# EAGLE library part RPI-CM4 (library SBC)
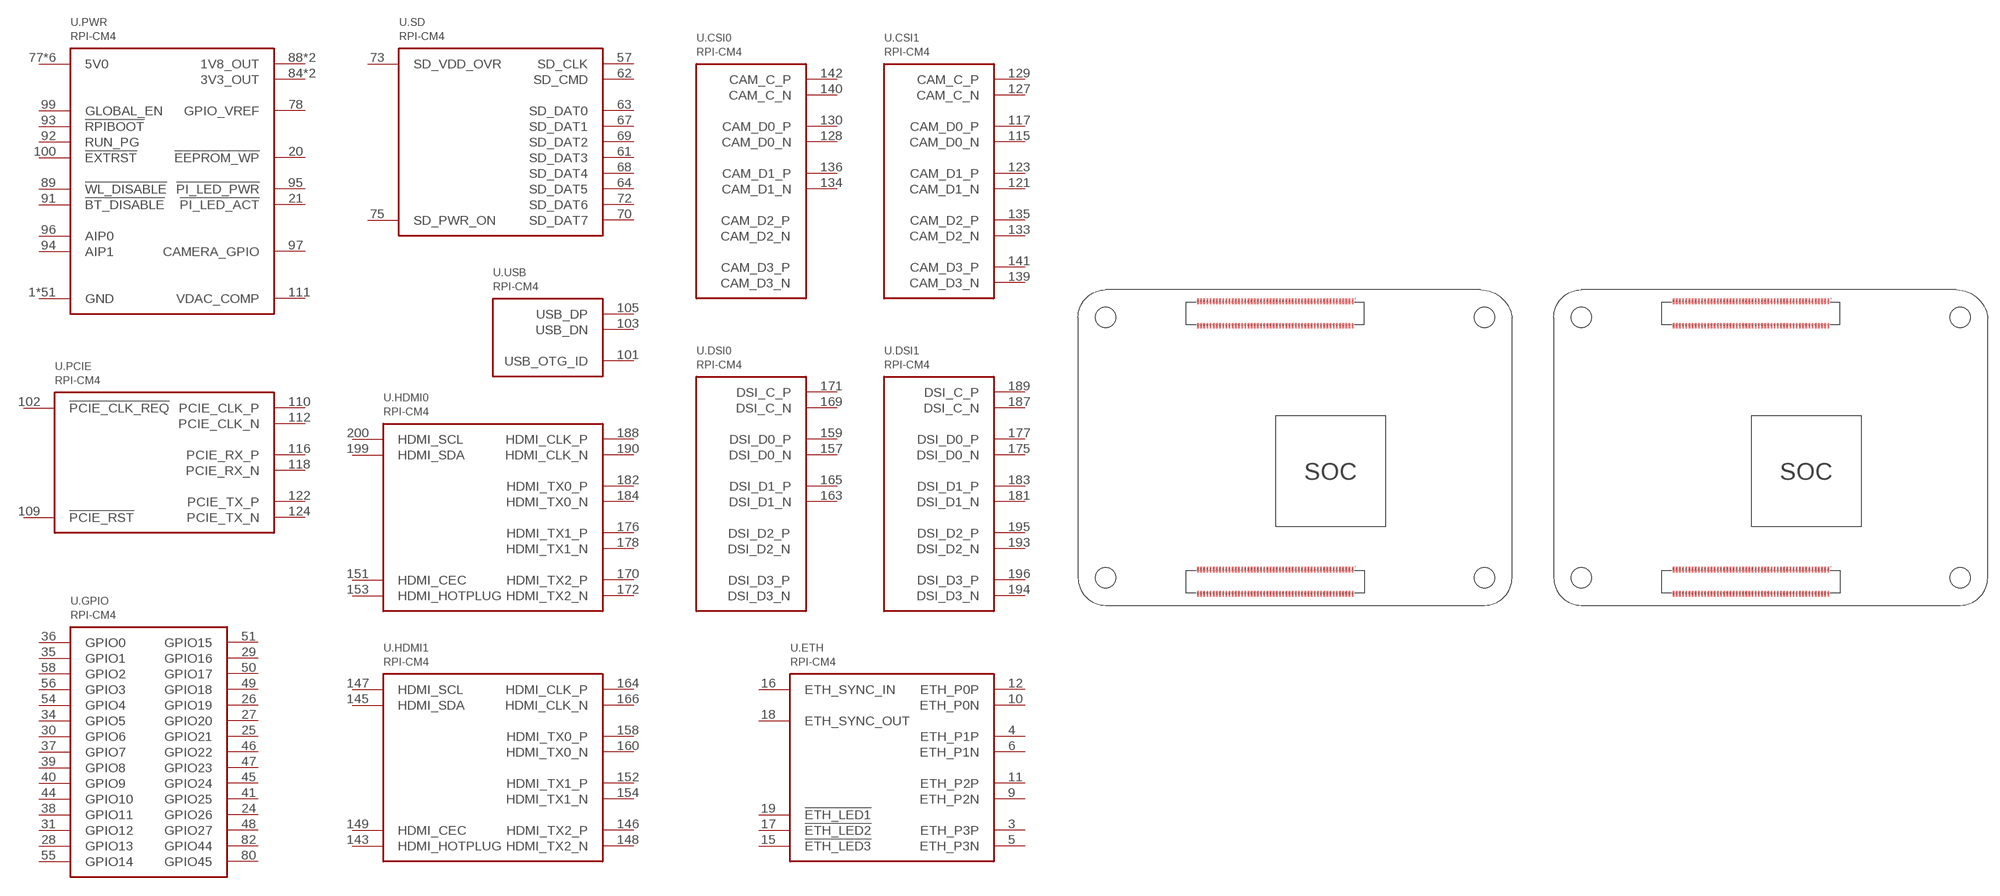
[diagram p3: symbol with the pads of RPI-CM4; footprints RPI-CM4, RPI-CM4-WIFI]

Designator prefix U; gates .PWR=RPI-CM4-PWR .SD=RPI-CM4-SD .USB=RPI-CM4-USB .PCIE=RPI-CM4-PCIE .HDMI0=RPI-CM4-HDMI .HDMI1=RPI-CM4-HDMI .GPIO=RPI-CM4-GPIO .ETH=RPI-CM4-ETH .DSI1=RPI-CM4-DSI-4 .CSI1=RPI-CM4-CSI-4 .CSI0=RPI-CM4-CSI-2 .DSI0=RPI-CM4-DSI-2

## RPI-CM4  [RPI-CM4]
1  .PWR:GND
2  .PWR:GND
3  .ETH:ETH_P3P
4  .ETH:ETH_P1P
5  .ETH:ETH_P3N
6  .ETH:ETH_P1N
7  .PWR:GND
8  .PWR:GND
9  .ETH:ETH_P2N
10  .ETH:ETH_P0N
11  .ETH:ETH_P2P
12  .ETH:ETH_P0P
13  .PWR:GND
14  .PWR:GND
15  .ETH:!ETH_LED3
16  .ETH:ETH_SYNC_IN
17  .ETH:!ETH_LED2
18  .ETH:ETH_SYNC_OUT
19  .ETH:!ETH_LED1
20  .PWR:!EEPROM_WP
21  .PWR:!PI_LED_ACT
22  .PWR:GND
23  .PWR:GND
24  .GPIO:GPIO26
25  .GPIO:GPIO21
26  .GPIO:GPIO19
27  .GPIO:GPIO20
28  .GPIO:GPIO13
29  .GPIO:GPIO16
30  .GPIO:GPIO6
31  .GPIO:GPIO12
32  .PWR:GND
33  .PWR:GND
34  .GPIO:GPIO5
35  .GPIO:GPIO1
36  .GPIO:GPIO0
37  .GPIO:GPIO7
38  .GPIO:GPIO11
39  .GPIO:GPIO8
40  .GPIO:GPIO9
41  .GPIO:GPIO25
42  .PWR:GND
43  .PWR:GND
44  .GPIO:GPIO10
45  .GPIO:GPIO24
46  .GPIO:GPIO22
47  .GPIO:GPIO23
48  .GPIO:GPIO27
49  .GPIO:GPIO18
50  .GPIO:GPIO17
51  .GPIO:GPIO15
52  .PWR:GND
53  .PWR:GND
54  .GPIO:GPIO4
55  .GPIO:GPIO14
56  .GPIO:GPIO3
57  .SD:SD_CLK
58  .GPIO:GPIO2
59  .PWR:GND
60  .PWR:GND
61  .SD:SD_DAT3
62  .SD:SD_CMD
63  .SD:SD_DAT0
64  .SD:SD_DAT5
65  .PWR:GND
66  .PWR:GND
67  .SD:SD_DAT1
68  .SD:SD_DAT4
69  .SD:SD_DAT2
70  .SD:SD_DAT7
71  .PWR:GND
72  .SD:SD_DAT6
73  .SD:SD_VDD_OVR
74  .PWR:GND
75  .SD:SD_PWR_ON
77  .PWR:5V0
78  .PWR:GPIO_VREF
79  .PWR:5V0
80  .GPIO:GPIO45
81  .PWR:5V0
82  .GPIO:GPIO44
83  .PWR:5V0
84  .PWR:3V3_OUT
85  .PWR:5V0
86  .PWR:3V3_OUT
87  .PWR:5V0
88  .PWR:1V8_OUT
89  .PWR:!WL_DISABLE
90  .PWR:1V8_OUT
91  .PWR:!BT_DISABLE
92  .PWR:RUN_PG
93  .PWR:!RPIBOOT
94  .PWR:AIP1
95  .PWR:!PI_LED_PWR
96  .PWR:AIP0
97  .PWR:CAMERA_GPIO
98  .PWR:GND
99  .PWR:GLOBAL_EN
100  .PWR:!EXTRST
101  .USB:USB_OTG_ID
102  .PCIE:!PCIE_CLK_REQ
103  .USB:USB_DN
105  .USB:USB_DP
107  .PWR:GND
108  .PWR:GND
109  .PCIE:!PCIE_RST
110  .PCIE:PCIE_CLK_P
111  .PWR:VDAC_COMP
112  .PCIE:PCIE_CLK_N
113  .PWR:GND
114  .PWR:GND
115  .CSI1:CAM_D0_N
116  .PCIE:PCIE_RX_P
117  .CSI1:CAM_D0_P
118  .PCIE:PCIE_RX_N
119  .PWR:GND
120  .PWR:GND
121  .CSI1:CAM_D1_N
122  .PCIE:PCIE_TX_P
123  .CSI1:CAM_D1_P
124  .PCIE:PCIE_TX_N
125  .PWR:GND
126  .PWR:GND
127  .CSI1:CAM_C_N
128  .CSI0:CAM_D0_N
129  .CSI1:CAM_C_P
130  .CSI0:CAM_D0_P
131  .PWR:GND
132  .PWR:GND
133  .CSI1:CAM_D2_N
134  .CSI0:CAM_D1_N
135  .CSI1:CAM_D2_P
136  .CSI0:CAM_D1_P
137  .PWR:GND
138  .PWR:GND
139  .CSI1:CAM_D3_N
140  .CSI0:CAM_C_N
141  .CSI1:CAM_D3_P
142  .CSI0:CAM_C_P
143  .HDMI1:HDMI_HOTPLUG
144  .PWR:GND
145  .HDMI1:HDMI_SDA
146  .HDMI1:HDMI_TX2_P
147  .HDMI1:HDMI_SCL
148  .HDMI1:HDMI_TX2_N
149  .HDMI1:HDMI_CEC
150  .PWR:GND
151  .HDMI0:HDMI_CEC
152  .HDMI1:HDMI_TX1_P
153  .HDMI0:HDMI_HOTPLUG
154  .HDMI1:HDMI_TX1_N
155  .PWR:GND
156  .PWR:GND
157  .DSI0:DSI_D0_N
158  .HDMI1:HDMI_TX0_P
159  .DSI0:DSI_D0_P
160  .HDMI1:HDMI_TX0_N
161  .PWR:GND
162  .PWR:GND
163  .DSI0:DSI_D1_N
164  .HDMI1:HDMI_CLK_P
165  .DSI0:DSI_D1_P
166  .HDMI1:HDMI_CLK_N
167  .PWR:GND
168  .PWR:GND
169  .DSI0:DSI_C_N
170  .HDMI0:HDMI_TX2_P
171  .DSI0:DSI_C_P
172  .HDMI0:HDMI_TX2_N
173  .PWR:GND
174  .PWR:GND
175  .DSI1:DSI_D0_N
176  .HDMI0:HDMI_TX1_P
177  .DSI1:DSI_D0_P
178  .HDMI0:HDMI_TX1_N
179  .PWR:GND
180  .PWR:GND
181  .DSI1:DSI_D1_N
182  .HDMI0:HDMI_TX0_P
183  .DSI1:DSI_D1_P
184  .HDMI0:HDMI_TX0_N
185  .PWR:GND
186  .PWR:GND
187  .DSI1:DSI_C_N
188  .HDMI0:HDMI_CLK_P
189  .DSI1:DSI_C_P
190  .HDMI0:HDMI_CLK_N
191  .PWR:GND
192  .PWR:GND
193  .DSI1:DSI_D2_N
194  .DSI1:DSI_D3_N
195  .DSI1:DSI_D2_P
196  .DSI1:DSI_D3_P
197  .PWR:GND
198  .PWR:GND
199  .HDMI0:HDMI_SDA
200  .HDMI0:HDMI_SCL

## RPI-CM4-WIFI  [RPI-CM4-WIFI]
Pads as for RPI-CM4

## Footprint RPI-CM4 (pad centres in mm)
smd 0.2 x 0.7: 1 34.8,38.54; 2 34.8,35.46; 3 34.4,38.54; 4 34.4,35.46; 5 34,38.54; 6 34,35.46; 7 33.6,38.54; 8 33.6,35.46; 9 33.2,38.54; 10 33.2,35.46; 11 32.8,38.54; 12 32.8,35.46; 13 32.4,38.54; 14 32.4,35.46; 15 32,38.54; 16 32,35.46; 17 31.6,38.54; 18 31.6,35.46; 19 31.2,38.54; 20 31.2,35.46; 21 30.8,38.54; 22 30.8,35.46; 23 30.4,38.54; 24 30.4,35.46; 25 30,38.54; 26 30,35.46; 27 29.6,38.54; 28 29.6,35.46; 29 29.2,38.54; 30 29.2,35.46; 31 28.8,38.54; 32 28.8,35.46; 33 28.4,38.54; 34 28.4,35.46; 35 28,38.54; 36 28,35.46; 37 27.6,38.54; 38 27.6,35.46; 39 27.2,38.54; 40 27.2,35.46; 41 26.8,38.54; 42 26.8,35.46; 43 26.4,38.54; 44 26.4,35.46; 45 26,38.54; 46 26,35.46; 47 25.6,38.54; 48 25.6,35.46; 49 25.2,38.54; 50 25.2,35.46; 51 24.8,38.54; 52 24.8,35.46; 53 24.4,38.54; 54 24.4,35.46; 55 24,38.54; 56 24,35.46; 57 23.6,38.54; 58 23.6,35.46; 59 23.2,38.54; 60 23.2,35.46; 61 22.8,38.54; 62 22.8,35.46; 63 22.4,38.54; 64 22.4,35.46; 65 22,38.54; 66 22,35.46; 67 21.6,38.54; 68 21.6,35.46; 69 21.2,38.54; 70 21.2,35.46; 71 20.8,38.54; 72 20.8,35.46; 73 20.4,38.54; 74 20.4,35.46; 75 20,38.54; 76 20,35.46; 77 19.6,38.54; 78 19.6,35.46; 79 19.2,38.54; 80 19.2,35.46; 81 18.8,38.54; 82 18.8,35.46; 83 18.4,38.54; 84 18.4,35.46; 85 18,38.54; 86 18,35.46; 87 17.6,38.54; 88 17.6,35.46; 89 17.2,38.54; 90 17.2,35.46; 91 16.8,38.54; 92 16.8,35.46; 93 16.4,38.54; 94 16.4,35.46; 95 16,38.54; 96 16,35.46; 97 15.6,38.54; 98 15.6,35.46; 99 15.2,38.54; 100 15.2,35.46; 101 34.8,4.54; 102 34.8,1.46; 103 34.4,4.54; 104 34.4,1.46; 105 34,4.54; 106 34,1.46; 107 33.6,4.54; 108 33.6,1.46; 109 33.2,4.54; 110 33.2,1.46; 111 32.8,4.54; 112 32.8,1.46; 113 32.4,4.54; 114 32.4,1.46; 115 32,4.54; 116 32,1.46; 117 31.6,4.54; 118 31.6,1.46; 119 31.2,4.54; 120 31.2,1.46; 121 30.8,4.54; 122 30.8,1.46; 123 30.4,4.54; 124 30.4,1.46; 125 30,4.54; 126 30,1.46; 127 29.6,4.54; 128 29.6,1.46; 129 29.2,4.54; 130 29.2,1.46; 131 28.8,4.54; 132 28.8,1.46; 133 28.4,4.54; 134 28.4,1.46; 135 28,4.54; 136 28,1.46; 137 27.6,4.54; 138 27.6,1.46; 139 27.2,4.54; 140 27.2,1.46; 141 26.8,4.54; 142 26.8,1.46; 143 26.4,4.54; 144 26.4,1.46; 145 26,4.54; 146 26,1.46; 147 25.6,4.54; 148 25.6,1.46; 149 25.2,4.54; 150 25.2,1.46; 151 24.8,4.54; 152 24.8,1.46; 153 24.4,4.54; 154 24.4,1.46; 155 24,4.54; 156 24,1.46; 157 23.6,4.54; 158 23.6,1.46; 159 23.2,4.54; 160 23.2,1.46; 161 22.8,4.54; 162 22.8,1.46; 163 22.4,4.54; 164 22.4,1.46; 165 22,4.54; 166 22,1.46; 167 21.6,4.54; 168 21.6,1.46; 169 21.2,4.54; 170 21.2,1.46; 171 20.8,4.54; 172 20.8,1.46; 173 20.4,4.54; 174 20.4,1.46; 175 20,4.54; 176 20,1.46; 177 19.6,4.54; 178 19.6,1.46; 179 19.2,4.54; 180 19.2,1.46; 181 18.8,4.54; 182 18.8,1.46; 183 18.4,4.54; 184 18.4,1.46; 185 18,4.54; 186 18,1.46; 187 17.6,4.54; 188 17.6,1.46; 189 17.2,4.54; 190 17.2,1.46; 191 16.8,4.54; 192 16.8,1.46; 193 16.4,4.54; 194 16.4,1.46; 195 16,4.54; 196 16,1.46; 197 15.6,4.54; 198 15.6,1.46; 199 15.2,4.54; 200 15.2,1.46
hole 2.55 at 3.5,3.5
hole 2.55 at 3.5,36.5
hole 2.55 at 51.5,36.5
hole 2.55 at 51.5,3.5

## Footprint RPI-CM4-WIFI (pad centres in mm)
smd 0.2 x 0.7: 1 34.8,38.54; 2 34.8,35.46; 3 34.4,38.54; 4 34.4,35.46; 5 34,38.54; 6 34,35.46; 7 33.6,38.54; 8 33.6,35.46; 9 33.2,38.54; 10 33.2,35.46; 11 32.8,38.54; 12 32.8,35.46; 13 32.4,38.54; 14 32.4,35.46; 15 32,38.54; 16 32,35.46; 17 31.6,38.54; 18 31.6,35.46; 19 31.2,38.54; 20 31.2,35.46; 21 30.8,38.54; 22 30.8,35.46; 23 30.4,38.54; 24 30.4,35.46; 25 30,38.54; 26 30,35.46; 27 29.6,38.54; 28 29.6,35.46; 29 29.2,38.54; 30 29.2,35.46; 31 28.8,38.54; 32 28.8,35.46; 33 28.4,38.54; 34 28.4,35.46; 35 28,38.54; 36 28,35.46; 37 27.6,38.54; 38 27.6,35.46; 39 27.2,38.54; 40 27.2,35.46; 41 26.8,38.54; 42 26.8,35.46; 43 26.4,38.54; 44 26.4,35.46; 45 26,38.54; 46 26,35.46; 47 25.6,38.54; 48 25.6,35.46; 49 25.2,38.54; 50 25.2,35.46; 51 24.8,38.54; 52 24.8,35.46; 53 24.4,38.54; 54 24.4,35.46; 55 24,38.54; 56 24,35.46; 57 23.6,38.54; 58 23.6,35.46; 59 23.2,38.54; 60 23.2,35.46; 61 22.8,38.54; 62 22.8,35.46; 63 22.4,38.54; 64 22.4,35.46; 65 22,38.54; 66 22,35.46; 67 21.6,38.54; 68 21.6,35.46; 69 21.2,38.54; 70 21.2,35.46; 71 20.8,38.54; 72 20.8,35.46; 73 20.4,38.54; 74 20.4,35.46; 75 20,38.54; 76 20,35.46; 77 19.6,38.54; 78 19.6,35.46; 79 19.2,38.54; 80 19.2,35.46; 81 18.8,38.54; 82 18.8,35.46; 83 18.4,38.54; 84 18.4,35.46; 85 18,38.54; 86 18,35.46; 87 17.6,38.54; 88 17.6,35.46; 89 17.2,38.54; 90 17.2,35.46; 91 16.8,38.54; 92 16.8,35.46; 93 16.4,38.54; 94 16.4,35.46; 95 16,38.54; 96 16,35.46; 97 15.6,38.54; 98 15.6,35.46; 99 15.2,38.54; 100 15.2,35.46; 101 34.8,4.54; 102 34.8,1.46; 103 34.4,4.54; 104 34.4,1.46; 105 34,4.54; 106 34,1.46; 107 33.6,4.54; 108 33.6,1.46; 109 33.2,4.54; 110 33.2,1.46; 111 32.8,4.54; 112 32.8,1.46; 113 32.4,4.54; 114 32.4,1.46; 115 32,4.54; 116 32,1.46; 117 31.6,4.54; 118 31.6,1.46; 119 31.2,4.54; 120 31.2,1.46; 121 30.8,4.54; 122 30.8,1.46; 123 30.4,4.54; 124 30.4,1.46; 125 30,4.54; 126 30,1.46; 127 29.6,4.54; 128 29.6,1.46; 129 29.2,4.54; 130 29.2,1.46; 131 28.8,4.54; 132 28.8,1.46; 133 28.4,4.54; 134 28.4,1.46; 135 28,4.54; 136 28,1.46; 137 27.6,4.54; 138 27.6,1.46; 139 27.2,4.54; 140 27.2,1.46; 141 26.8,4.54; 142 26.8,1.46; 143 26.4,4.54; 144 26.4,1.46; 145 26,4.54; 146 26,1.46; 147 25.6,4.54; 148 25.6,1.46; 149 25.2,4.54; 150 25.2,1.46; 151 24.8,4.54; 152 24.8,1.46; 153 24.4,4.54; 154 24.4,1.46; 155 24,4.54; 156 24,1.46; 157 23.6,4.54; 158 23.6,1.46; 159 23.2,4.54; 160 23.2,1.46; 161 22.8,4.54; 162 22.8,1.46; 163 22.4,4.54; 164 22.4,1.46; 165 22,4.54; 166 22,1.46; 167 21.6,4.54; 168 21.6,1.46; 169 21.2,4.54; 170 21.2,1.46; 171 20.8,4.54; 172 20.8,1.46; 173 20.4,4.54; 174 20.4,1.46; 175 20,4.54; 176 20,1.46; 177 19.6,4.54; 178 19.6,1.46; 179 19.2,4.54; 180 19.2,1.46; 181 18.8,4.54; 182 18.8,1.46; 183 18.4,4.54; 184 18.4,1.46; 185 18,4.54; 186 18,1.46; 187 17.6,4.54; 188 17.6,1.46; 189 17.2,4.54; 190 17.2,1.46; 191 16.8,4.54; 192 16.8,1.46; 193 16.4,4.54; 194 16.4,1.46; 195 16,4.54; 196 16,1.46; 197 15.6,4.54; 198 15.6,1.46; 199 15.2,4.54; 200 15.2,1.46
hole 2.55 at 3.5,3.5
hole 2.55 at 3.5,36.5
hole 2.55 at 51.5,36.5
hole 2.55 at 51.5,3.5